# Altium schematic symbol library Wago.SchLib: 2 symbols
Pins are listed as number, name and electrical type; pins without a type are passive.

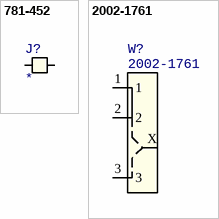
[diagram p0: symbols 781-452 to 2002-1761]

## 781-452
designator J?
Staggered jumper, 1 to 2; Manufacturer 1: Wago; Manufacturer Part Number 1: 781-452
pins: 1, 2

## 2002-1761
designator W?
Terminal Block, 3 Conductor, Carrier; Manufacturer 1: Wago; Manufacturer Part Number 1: 2002-1761
pins: 1, 2, 3, X